# EAGLE library part POT_DUAL_R16 (library smok)
dual potentiometer, uknown brand, sold as R16. http://www.rcscomponents.kiev.ua/modules/Asers_Shop/images/datasheets/di2yt3i7tr8eggy82teufg562w3r.jpg
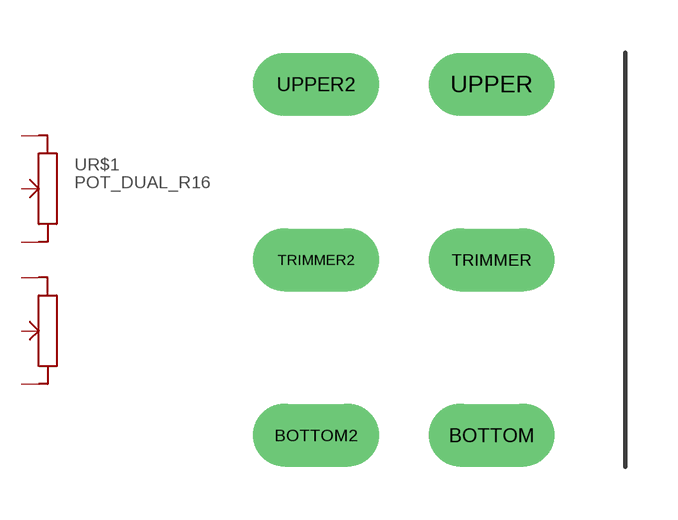
[diagram p1: symbol with the pads of POT_DUAL_R16; footprint POT_DUAL_R16]

Designator prefix -; gates R$1=POT_DUAL G$1=POT_DUAL2

## POT_DUAL_R16  [POT_DUAL_R16]
BOTTOM  R$1:BOTTOM
BOTTOM2  G$1:BOTTOM2
TRIMMER  R$1:TRIMMER
TRIMMER2  G$1:TRIMMER2
UPPER  R$1:UPPER
UPPER2  G$1:UPPER2

## Footprint POT_DUAL_R16 (pad centres in mm)
drill 1.2 long: BOTTOM 2.5,-5; BOTTOM2 -2.5,-5; TRIMMER 2.5,0; TRIMMER2 -2.5,0; UPPER 2.5,5; UPPER2 -2.5,5